# EAGLE library part IMY_YZ (library paparazzi)
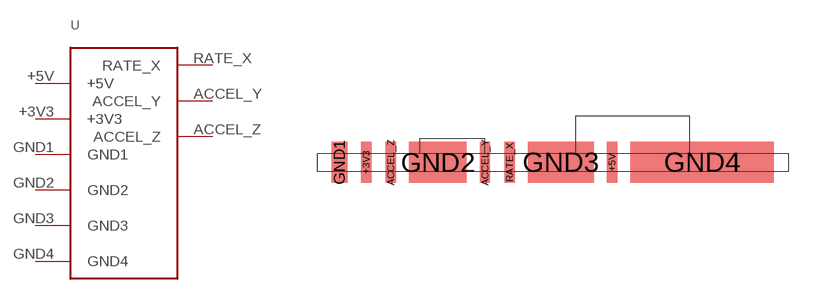
[diagram p26: symbol with the pads of IMU_YZ; footprint IMU_YZ]

Designator prefix -

## IMY_YZ  [IMU_YZ]
+3V3  +3V3
+5V  +5V
ACCEL_Y  ACCEL_Y
ACCEL_Z  ACCEL_Z
GND1  GND1
GND2  GND2
GND3  GND3
GND4  GND4
RATE_X  RATE_X

## Footprint IMU_YZ (pad centres in mm)
smd 0.635 x 2.54: +3V3 -11.557,0; +5V 3.683,0; ACCEL_Y -4.191,0; ACCEL_Z -10.033,0; RATE_X -2.667,0
smd 1.016 x 2.54: GND1 -13.208,0
smd 3.556 x 2.54: GND2 -7.112,0
smd 4.064 x 2.54: GND3 0.508,0
smd 8.89 x 2.54: GND4 9.271,0